# Altium footprint library Relay.PcbLib: 1 footprints
Each footprint in its own frame and in the unit in brackets; x right, y up, seen from the top. Pads: shape width x height; smd on the part's side, far side on the other; paste and mask are expansions set on the pad; w line width, h text height; cw(c..) or ccw(c..) is an arc to the next point about the centre after c.
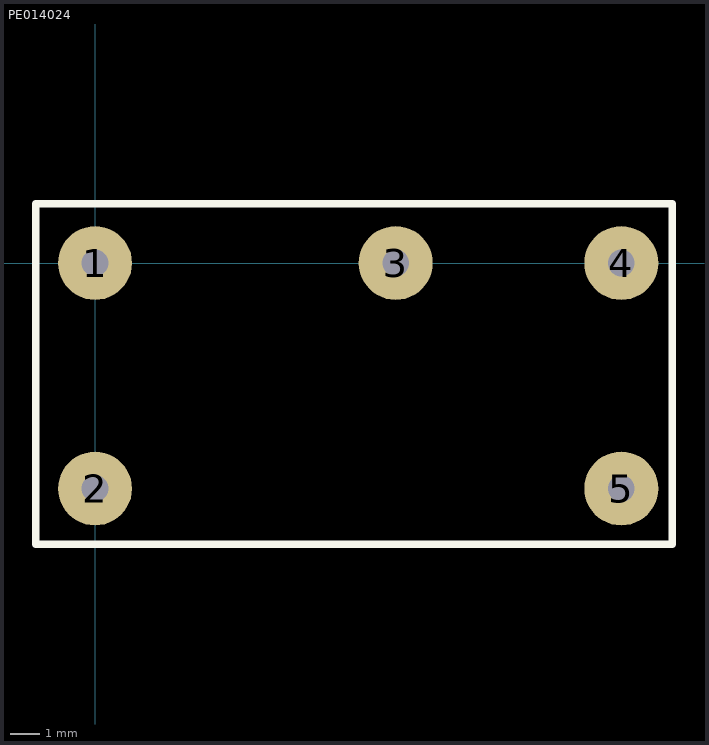
[diagram p0: the footprint, top view; thin cyan lines are the x and y axes]

## PE014024 [mm]
pads (5):
  round 2.5 hole 0.9: 1(0,0) 2(0,-7.62) 3(10.16,0) 4(17.78,0) 5(17.78,-7.62)
Top Overlay:
  lines w0.254: -2,-9.5 -2,1.5 -2,2 19.5,2 19.5,-9.5 -2,-9.5